# EAGLE library part LT1019ACS8-2.5PBF (library SquantorLinearTechnology)
Precision Reference
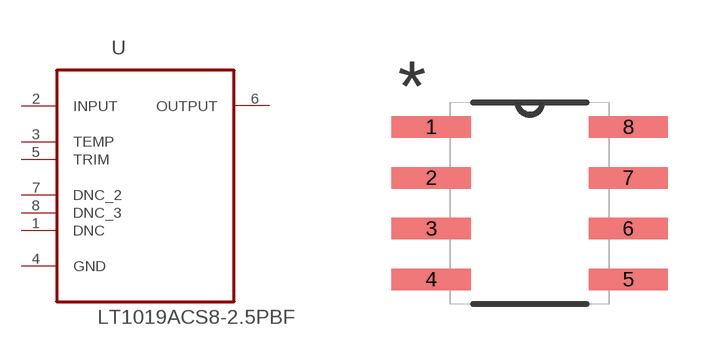
[diagram p7: symbol with the pads of SOIC127P600X175-8N; footprint SOIC127P600X175-8N]

Designator prefix U

## LT1019ACS8-2.5PBF (MPN: LT1019ACS8-2.5#PBF; OC_FARNELL: 1663332; OC_NEWARK: 57M0902; PACKAGE: SOIC-8; SUPPLIER: LINEAR TECHNOLOGY)  [SOIC127P600X175-8N]
1  DNC  nc
2  INPUT  in
3  TEMP  in
4  GND  pas
5  TRIM  in
6  OUTPUT  out
7  DNC_2  nc
8  DNC_3  nc

## Footprint SOIC127P600X175-8N (pad centres in mm)
smd 1.981 x 0.533: 1 -2.464,1.905; 2 -2.464,0.635; 3 -2.464,-0.635; 4 -2.464,-1.905; 5 2.464,-1.905; 6 2.464,-0.635; 7 2.464,0.635; 8 2.464,1.905